# Altium schematic symbol library CONNECTOR_WIRE2BOARD.SchLib: 4 symbols
Pins are listed as number, name and electrical type; pins without a type are passive.

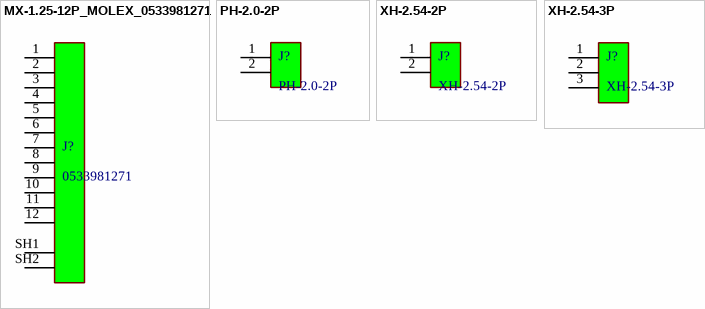
[diagram p0: symbols MX-1.25-12P_MOLEX_0533981271 to XH-2.54-3P]

## MX-1.25-12P_MOLEX_0533981271
designator J?, comment 0533981271
MOLEX 0533981271; MPN: *; LCSC: *
footprint MOLEX_533981271
pins: 1, 2, 3, 4, 5, 6, 7, 8, 9, 10, 11, 12, SH1 13, SH2 14

## PH-2.0-2P
designator J?
MPN: *; LCSC: *
footprint PH-2.0-2P-Vertical
pins: 1, 2

## XH-2.54-2P
designator J?
MPN: *; LCSC: *
footprint XH_2.54_2P_Vertical
footprint XH_2.54_2P_Horizontal
pins: 1, 2

## XH-2.54-3P
designator J?
MPN: *; LCSC: *
footprint XH_2.54_3P_Vertical
pins: 1, 2, 3